# Altium footprint library TSSOP.PcbLib: 9 footprints
Each footprint in its own frame and in the unit in brackets; x right, y up, seen from the top. Pads: shape width x height; smd on the part's side, far side on the other; paste and mask are expansions set on the pad; w line width, h text height; cw(c..) or ccw(c..) is an arc to the next point about the centre after c.
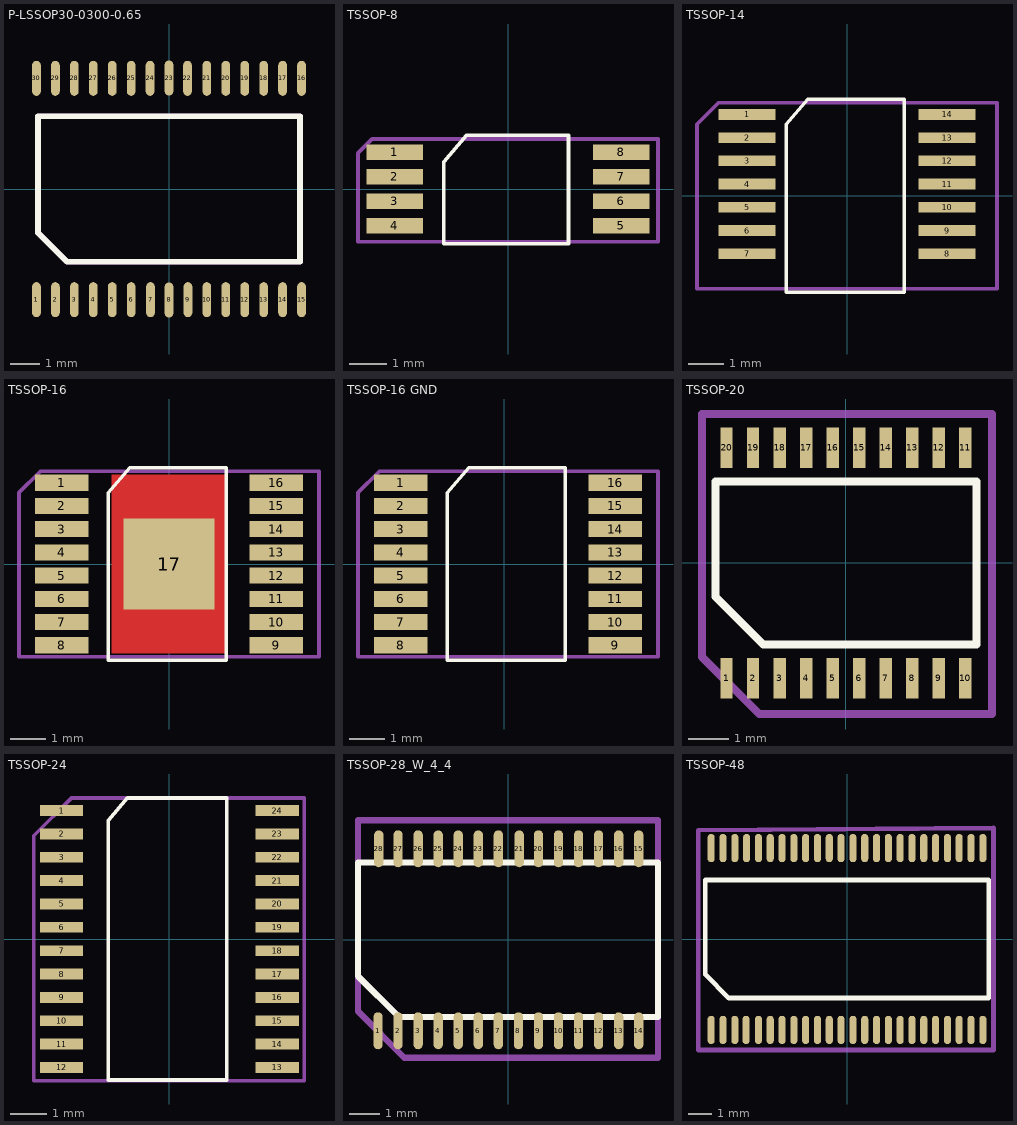
[diagram p0: the footprints below, top view; thin cyan lines are the x and y axes]

## P-LSSOP30-0300-0.65 [mm]
pads (30):
  oval 0.3x1.2 smd: 1(-4.55,-3.8) 2(-3.9,-3.8) 3(-3.25,-3.8) 4(-2.6,-3.8) 5(-1.95,-3.8) 6(-1.3,-3.8) 7(-0.635,-3.8) 8(0,-3.81) 9(0.65,-3.8) 10(1.3,-3.8) 11(1.95,-3.8) 12(2.6,-3.8) 13(3.25,-3.8) 14(3.9,-3.8) 15(4.55,-3.8) 16(4.55,3.8) 17(3.9,3.8) 18(3.25,3.8) 19(2.6,3.8) 20(1.95,3.8) 21(1.3,3.8) 22(0.635,3.8) 23(0,3.81) 24(-0.65,3.8) 25(-1.3,3.8) 26(-1.95,3.8) 27(-2.6,3.8) 28(-3.25,3.8) 29(-3.9,3.8) 30(-4.55,3.8)
Top Overlay:
  lines w0.2: -4.5,-1.5 -4.5,2.5 4.5,2.5 4.5,-2.5 -3.5,-2.5 -4.5,-1.5
TopAssy:
  lines w0.2: -4.5,-1.5 -3.5,-2.5 4.5,-2.5 4.5,2.5 -4.5,2.5 -4.5,-1.5
Mechanical 15:
  text ".Designator" at -3.9,-0.075 h1.52
3D body: height 1.3, standoff 0, extent -4.928,-4.051 4.928,4.051

## TSSOP-8 [mm]
pads (8):
  rect 1.5x0.4 smd: 1(-3,0.975) 2(-3,0.325) 3(-3,-0.325) 4(-3,-0.975) 5(3,-0.975) 6(3,-0.325) 7(3,0.325) 8(3,0.975)
Top Overlay:
  lines w0.1: -1.7,-1.45 -1.7,0.725 -1.1,1.425 1.6,1.425 1.6,-1.45 -1.7,-1.45
TopAssy:
  lines w0.1: -3.975,-1.4 -3.975,0.95 -3.6,1.325 3.975,1.325 3.975,-1.4 -3.975,-1.4
Mechanical 15:
  text ".Designator" at -3.1,-0.4 h1.52
3D body: height 1.2, standoff 0, extent -3.325,-1.5 3.075,1.5

## TSSOP-14 [mm]
pads (14):
  rect 1.6x0.3 smd: 1(-2.8,2.275) 2(-2.8,1.625) 3(-2.8,0.975) 4(-2.8,0.325) 5(-2.8,-0.325) 6(-2.8,-0.975) 7(-2.8,-1.625) 8(2.8,-1.625) 9(2.8,-0.975) 10(2.8,-0.325) 11(2.8,0.325) 12(2.8,0.975) 13(2.8,1.625) 14(2.8,2.275)
Top Overlay:
  lines w0.1: -1.7,-2.7 1.6,-2.7 1.6,2.7 -1.1,2.7 -1.7,2 -1.7,-2.7
TopAssy:
  lines w0.1: -4.2,-2.6 4.2,-2.6 4.2,2.6 -3.6,2.6 -4.2,2 -4.2,-2.6
Mechanical 15:
  text ".Designator" at -3.1,-0.3 h1.52
3D body: height 1.1, standoff 0, extent -3.1,-2.2 3.3,2.8

## TSSOP-16 [mm]
pads (17):
  rect 1.5x0.45 smd: 1(-3,2.275) 2(-3,1.625) 3(-3,0.975) 4(-3,0.325) 5(-3,-0.325) 6(-3,-0.975) 7(-3,-1.625) 8(-3,-2.275) 9(3,-2.275) 10(3,-1.625) 11(3,-0.975) 12(3,-0.325) 13(3,0.325) 14(3,0.975) 15(3,1.625) 16(3,2.275)
  rect 2.54x2.54 smd: 17(0,0)
Top Layer:
  region: -1.6,-2.5 -1.6,2.5 1.6,2.5 1.6,-2.5
Top Overlay:
  lines w0.1: -1.7,-2.7 1.6,-2.7 1.6,2.7 -1.1,2.7 -1.7,2 -1.7,-2.7
TopAssy:
  lines w0.1: -4.2,-2.6 4.2,-2.6 4.2,2.6 -3.6,2.6 -4.2,2 -4.2,-2.6
Mechanical 15:
  text ".Designator" at -3.1,-0.3 h1.52
3D body: height 1.06, standoff -0.01, extent -3.35,-2.55 3.15,2.55

## TSSOP-16 GND [mm]
pads (16):
  rect 1.5x0.45 smd: 1(-2.9,2.275) 2(-2.9,1.625) 3(-2.9,0.975) 4(-2.9,0.325) 5(-2.9,-0.325) 6(-2.9,-0.975) 7(-2.9,-1.625) 8(-2.9,-2.275) 9(3.1,-2.275) 10(3.1,-1.625) 11(3.1,-0.975) 12(3.1,-0.325) 13(3.1,0.325) 14(3.1,0.975) 15(3.1,1.625) 16(3.1,2.275)
Top Overlay:
  lines w0.1: -1.6,-2.7 -1.6,2 -1,2.7 1.7,2.7 1.7,-2.7 -1.6,-2.7
TopAssy:
  lines w0.1: -4.1,-2.6 -4.1,2 -3.5,2.6 4.3,2.6 4.3,-2.6 -4.1,-2.6
Mechanical 15:
  text ".Designator" at -3,-0.3 h1.52
3D body: height 1.06, standoff -0.01, extent -3.25,-2.55 3.25,2.55

## TSSOP-20 [mm]
pads (20):
  rect 0.3x1 smd: 1(-2.925,-2.825) 2(-2.275,-2.825) 3(-1.625,-2.825) 4(-0.975,-2.825) 5(-0.325,-2.825) 6(0.325,-2.825) 7(0.975,-2.825) 8(1.625,-2.825) 9(2.275,-2.825) 10(2.925,-2.825) 11(2.925,2.825) 12(2.275,2.825) 13(1.625,2.825) 14(0.975,2.825) 15(0.325,2.825) 16(-0.325,2.825) 17(-0.975,2.825) 18(-1.625,2.825) 19(-2.275,2.825) 20(-2.925,2.825)
Top Overlay:
  lines w0.2: -3.2,-0.827 -2.027,-2 3.2,-2 3.2,2 -3.2,2 -3.2,-0.827
TopAssy:
  lines w0.2: -3.525,-2.3 -2.125,-3.7 3.575,-3.7 3.575,3.65 -3.525,3.65 -3.525,-2.3
  text ".Designator" at -2.413,-0.635 h1.52
3D body: height 1.2, standoff 0, extent -3.25,-3.2 3.25,3.2

## TSSOP-24 [mm]
pads (24):
  rect 1.2x0.3 smd: 1(-3,3.575) 2(-3,2.925) 3(-3,2.275) 4(-3,1.625) 5(-3,0.975) 6(-3,0.325) 7(-3,-0.325) 8(-3,-0.975) 9(-3,-1.625) 10(-3,-2.275) 11(-3,-2.925) 12(-3,-3.575) 13(3,-3.575) 14(3,-2.925) 15(3,-2.275) 16(3,-1.625) 17(3,-0.975) 18(3,-0.325) 19(3,0.325) 20(3,0.975) 21(3,1.625) 22(3,2.275) 23(3,2.925) 24(3,3.575)
Top Overlay:
  lines w0.1: -1.7,-3.925 1.6,-3.925 1.6,3.925 -1.164,3.925 -1.7,3.3 -1.7,-3.925
TopAssy:
  lines w0.1: -3.775,-3.95 3.75,-3.95 3.75,3.925 -2.725,3.925 -3.775,2.875 -3.775,-3.95
Mechanical 15:
  text ".Designator" at -3.1,1 h1.52
3D body: height 1.2, standoff 0, extent -3.2,-3.9 3.2,3.9

## TSSOP-28_W_4_4 [mm]
pads (28):
  oval 0.3x1.2 smd: 1(-4.225,-2.95) 2(-3.575,-2.95) 3(-2.925,-2.95) 4(-2.275,-2.95) 5(-1.625,-2.95) 6(-0.975,-2.95) 7(-0.325,-2.95) 8(0.325,-2.95) 9(0.975,-2.95) 10(1.625,-2.95) 11(2.275,-2.95) 12(2.925,-2.95) 13(3.575,-2.95) 14(4.225,-2.95) 15(4.225,2.95) 16(3.575,2.95) 17(2.925,2.95) 18(2.275,2.95) 19(1.625,2.95) 20(0.975,2.95) 21(0.35,2.95) 22(-0.325,2.95) 23(-0.975,2.95) 24(-1.625,2.95) 25(-2.275,2.95) 26(-2.925,2.95) 27(-3.575,2.95) 28(-4.2,2.95)
Top Overlay:
  lines w0.2: -4.875,-1.175 -3.55,-2.5 4.85,-2.5 4.85,2.5 -4.875,2.5 -4.875,-1.175
Mechanical 15:
  lines w0.2: -4.875,-2.325 -4.875,3.875 4.85,3.875 4.85,-3.825 -3.375,-3.825 -4.875,-2.325
  text ".Designator" at -2.6,-0.7 h1.52
3D body: height 1.2, standoff 0, extent -4.85,-3.2 4.85,3.2

## TSSOP-48 [mm]
pads (48):
  oval 0.3x1.2 smd: 1(-5.75,-3.85) 2(-5.25,-3.85) 3(-4.75,-3.85) 4(-4.275,-3.85) 5(-3.75,-3.85) 6(-3.25,-3.85) 7(-2.75,-3.85) 8(-2.25,-3.85) 9(-1.75,-3.85) 10(-1.25,-3.85) 11(-0.75,-3.85) 12(-0.25,-3.85) 13(0.25,-3.85) 14(0.75,-3.85) 15(1.25,-3.85) 16(1.75,-3.85) 17(2.25,-3.85) 18(2.75,-3.85) 19(3.25,-3.85) 20(3.75,-3.85) 21(4.25,-3.85) 22(4.75,-3.85) 23(5.25,-3.85) 24(5.75,-3.85) 25(5.75,3.85) 26(5.25,3.85) 27(4.75,3.85) 28(4.25,3.85) 29(3.75,3.85) 30(3.25,3.85) 31(2.75,3.85) 32(2.25,3.85) 33(1.75,3.85) 34(1.25,3.85) 35(0.75,3.85) 36(0.25,3.85) 37(-0.25,3.85) 38(-0.75,3.85) 39(-1.25,3.85) 40(-1.75,3.85) 41(-2.25,3.85) 42(-2.75,3.85) 43(-3.25,3.85) 44(-3.75,3.85) 45(-4.25,3.85) 46(-4.75,3.85) 47(-5.25,3.85) 48(-5.75,3.85)
Top Overlay:
  lines w0.2: -6,-1.5 -6,2.5 6,2.5 6,-2.5 -5,-2.5 -6,-1.5
Mechanical 15:
  lines w0.2: -6.3,-4.7 -6.3,4.6 6.2,4.7 6.2,-4.7 -6.3,-4.7
  text ".Designator" at -2.6,-0.7 h1.52
3D body: height 1.1, standoff 0, extent -6.25,-4.05 6.25,4.05